# Altium footprint library Buttons.PcbLib: 6 footprints
Each footprint in its own frame and in the unit in brackets; x right, y up, seen from the top. Pads: shape width x height; smd on the part's side, far side on the other; paste and mask are expansions set on the pad; w line width, h text height; cw(c..) or ccw(c..) is an arc to the next point about the centre after c.
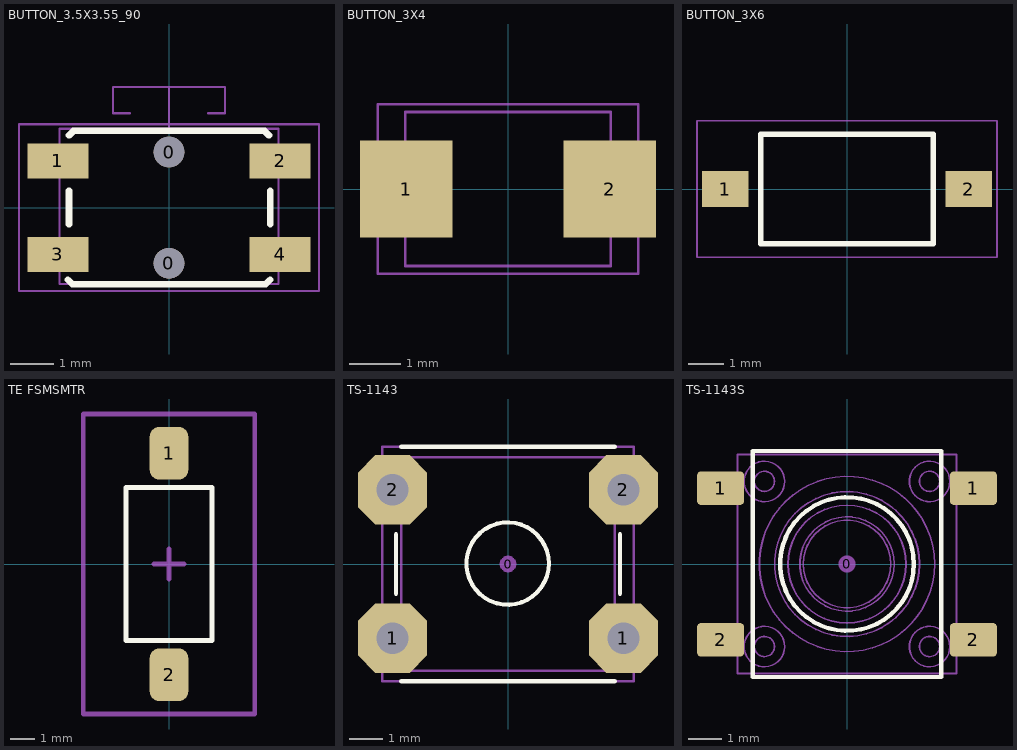
[diagram p0: the footprints below, top view; thin cyan lines are the x and y axes]

## BUTTON_3.5X3.55_90 [mm]
pads (6):
  round 0.7 hole 0.7 mask+0: 0(0,-1.27) 0(0,1.27)
  rect 1.4x0.8 smd: 1(-2.54,1.069) 2(2.54,1.069) 3(-2.54,-1.069) 4(2.54,-1.069)
Top Overlay:
  lines w0.152: -2.311,-1.651 -2.21,-1.753 2.21,-1.753 2.311,-1.651 ; -2.286,-0.381 -2.286,0.381 ; -2.286,1.651 -2.184,1.753 2.184,1.753 2.286,1.651 ; 2.311,-0.381 2.311,0.381
Mechanical 13:
  lines w0.051: -0.899,2.153 -1.28,2.153 -1.28,2.753 1.28,2.753 1.28,2.153 0.899,2.153 ; 0,1.803 0,2.753 ; -2.5,-1.75 -2.5,1.803 2.5,1.803 2.5,-1.75 -2.5,-1.75
Mechanical 14:
  lines w0.051: -3.429,-1.905 -3.429,1.905 3.429,1.905 3.429,-1.905 -3.429,-1.905
3D body "User Library-KMS231G.STEP": height 1.42, standoff -0.02, extent -2.289,-1.391 2.311,2.159

## BUTTON_3X4 [mil]
height 78.74
pads (2):
  rect 70.87x74 smd: 1(-78,0) 2(78,0)
Mechanical 13:
  lines w2: -78.74,-59.06 -78.74,59.06 78.74,59.06 78.75,-59.05 -78.73,-59.05
Mechanical 14:
  lines w2: -100,-65 -100,65 100,65 100,-65 -100,-65
3D body "User Library-Pushbutton3x4x2.step": height 78.74, standoff 0, extent -96.45,-57.08 96.46,57.09

## BUTTON_3X6 [mm]
pads (2):
  rect 1.3x1 smd: 1(-3.4,0) 2(3.4,0)
Top Overlay:
  lines w0.152: -2.413,-1.524 2.413,-1.524 2.413,1.524 -2.413,1.524 -2.413,-1.524
Mechanical 14:
  lines w0.051: -4.191,-1.905 -4.191,1.905 4.191,1.905 4.191,-1.905 -4.191,-1.905
3D body "SW3dPS-TVBU19.STEP": height 2.5, standoff 0, extent -3.05,-1.85 3.05,1.85

## TE FSMSMTR [mm]
height 4.42
pads (2):
  rrect50% 1.6x2.19 smd: 1(0,4.595) 2(0,-4.595)
Top Overlay:
  lines w0.2: -1.778,-3.175 1.778,-3.175 1.778,3.175 -1.778,3.175 -1.778,-3.175
Mechanical 15:
  lines w0.2: -0.635,0 0.635,0 ; 0,-0.635 0,0.635 ; -3.556,-6.223 -3.556,6.223 3.556,6.223 3.556,-6.223 -3.556,-6.223
3D body "FSMSMTR.STEP": height 4.42, standoff 0, extent -1.75,-4.984 1.75,4.985

## TS-1143 [mm] "Bondtact sealed TH tact switch"
height 4.318
pads (5):
  round 0.508 on Mech15: 0(0,0)
  oct 2.1x2.1 hole 0.965: 1(-3.5,-2.25) 1(3.5,-2.25) 2(-3.5,2.25) 2(3.5,2.25)
Top Overlay:
  circle w0.127: c-0.011,0.014 r1.25
  lines w0.127: -3.4,-0.9 -3.4,0.9 ; -3.239,-3.556 3.24,-3.556 ; -3.236,3.556 3.236,3.556 ; 3.4,-0.9 3.4,0.9
Mechanical 13:
  circle w0.076: c-0.011,0.014 r1.25
  lines w0.076: -3.232,-3.237 3.24,-3.237 3.24,3.24 -3.232,3.24 -3.232,-3.237
Mechanical 15:
  lines w0.076: -3.81,-3.556 -3.81,3.556 3.81,3.556 3.81,-3.556 -3.81,-3.556
3D body "TS-1143-WP.stp": height 4.3, standoff -3.5, extent -4.134,-3.25 4.134,3.25

## TS-1143S [mm] "6.5x6.5mm SMD tact switch 4.3mm stem"
height 4.3
pads (5):
  round 0.508 on Mech15: 0(0,0)
  rrect25% 1.4x1 smd: 1(-3.75,2.25) 1(3.75,2.25) 2(-3.75,-2.25) 2(3.75,-2.25)
Top Overlay:
  circle w0.127: c0,0 r1.984
  lines w0.127: -2.794,-3.35 2.794,-3.35 2.794,3.35 -2.794,3.35 -2.794,-3.35
Mechanical 13:
  circle w0.05: c-2.45,-2.45 r0.6
  circle w0.05: c2.45,-2.45 r0.6
  circle w0.05: c2.45,2.45 r0.6
  circle w0.05: c-2.45,2.45 r0.6
  circle w0.05: c-2.45,-2.448 r0.3
  circle w0.05: c2.45,-2.448 r0.3
  circle w0.05: c-2.45,2.452 r0.3
  circle w0.05: c2.45,2.452 r0.3
  circle w0.05: c0,0 r2.6
  circle w0.05: c0,0 r2.15
  circle w0.05: c0,-0.002 r1.75
  circle w0.05: c0,0 r1.3
  circle w0.05: c0,0 r1.4
  lines w0.05: -3.591,-2.6 -3.591,-1.9 ; -3.591,1.9 -3.591,2.6 ; -3.571,-2.6 -3.571,-1.9 ; -3.571,1.9 -3.571,2.6 ; -3.468,-2.6 -3.468,-1.9 ; -3.468,1.9 -3.468,2.6 ; -3.253,-2.6 -3.253,-1.9 ; -3.253,1.9 -3.253,2.6 ; -3.25,-2.6 -4,-2.6 -4,-1.9 -3.25,-1.9 ; -3.25,1.9 -4,1.9 -4,2.6 -3.25,2.6 ; 3.25,-2.6 4,-2.6 4,-1.9 3.25,-1.9 ; 3.25,1.9 4,1.9 4,2.6 3.25,2.6 ; 3.253,-2.6 3.253,-1.9 ; 3.253,1.9 3.253,2.6 ; 3.468,-2.6 3.468,-1.9 ; 3.468,1.9 3.468,2.6 ; 3.571,-2.6 3.571,-1.9 ; 3.571,1.9 3.571,2.6 ; 3.591,-2.6 3.591,-1.9 ; 3.591,1.9 3.591,2.6 ; -3.25,-3.25 -3.25,3.25 3.25,3.25 3.25,-3.25 -3.25,-3.25
3D body "TS-1143S-WP.STEP": height 4.3, standoff 0, extent -4,-3.25 4,3.25